# EAGLE library part ATSAMR21E (library Atmel)
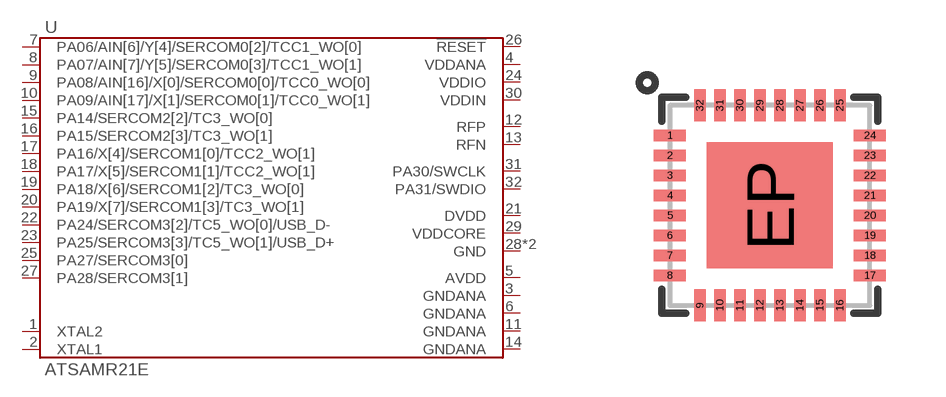
[diagram p16: symbol with the pads of QFN-32; footprint QFN-32]

Designator prefix U

## ATSAMR21E-MU  [QFN-32]
1  XTAL2
2  XTAL1
3  GNDANA
4  VDDANA
5  AVDD
6  GNDANA
7  PA06/AIN[6]/Y[4]/SERCOM0[2]/TCC1_WO[0]
8  PA07/AIN[7]/Y[5]/SERCOM0[3]/TCC1_WO[1]
9  PA08/AIN[16]/X[0]/SERCOM0[0]/TCC0_WO[0]
10  PA09/AIN[17]/X[1]/SERCOM0[1]/TCC0_WO[1]
11  GNDANA
12  RFP
13  RFN
14  GNDANA
15  PA14/SERCOM2[2]/TC3_WO[0]
16  PA15/SERCOM2[3]/TC3_WO[1]
17  PA16/X[4]/SERCOM1[0]/TCC2_WO[1]
18  PA17/X[5]/SERCOM1[1]/TCC2_WO[1]
19  PA18/X[6]/SERCOM1[2]/TC3_WO[0]
20  PA19/X[7]/SERCOM1[3]/TC3_WO[1]
21  DVDD
22  PA24/SERCOM3[2]/TC5_WO[0]/USB_D-
23  PA25/SERCOM3[3]/TC5_WO[1]/USB_D+
24  VDDIO
25  PA27/SERCOM3[0]
26  !RESET
27  PA28/SERCOM3[1]
28  GND
29  VDDCORE
30  VDDIN
31  PA30/SWCLK
32  PA31/SWDIO
EP  GND

## Footprint QFN-32 (pad centres in mm)
smd 0.8 x 0.285: 1 -2.5,1.75; 2 -2.5,1.25; 3 -2.5,0.75; 4 -2.5,0.25; 5 -2.5,-0.25; 6 -2.5,-0.75; 7 -2.5,-1.25; 8 -2.5,-1.75; 17 2.5,-1.75; 18 2.5,-1.25; 19 2.5,-0.75; 20 2.5,-0.25; 21 2.5,0.25; 22 2.5,0.75; 23 2.5,1.25; 24 2.5,1.75
smd 0.285 x 0.8: 9 -1.75,-2.5; 10 -1.25,-2.5; 11 -0.75,-2.5; 12 -0.25,-2.5; 13 0.25,-2.5; 14 0.75,-2.5; 15 1.25,-2.5; 16 1.75,-2.5; 25 1.75,2.5; 26 1.25,2.5; 27 0.75,2.5; 28 0.25,2.5; 29 -0.25,2.5; 30 -0.75,2.5; 31 -1.25,2.5; 32 -1.75,2.5
smd 3.15 x 3.15: EP 0,0